# Altium footprint library golgi_bot_ESP_V2.01.PcbLib: 18 footprints (part 1 of 2)
Each footprint in its own frame and in the unit in brackets; x right, y up, seen from the top. Pads: shape width x height; smd on the part's side, far side on the other; paste and mask are expansions set on the pad; w line width, h text height; cw(c..) or ccw(c..) is an arc to the next point about the centre after c.
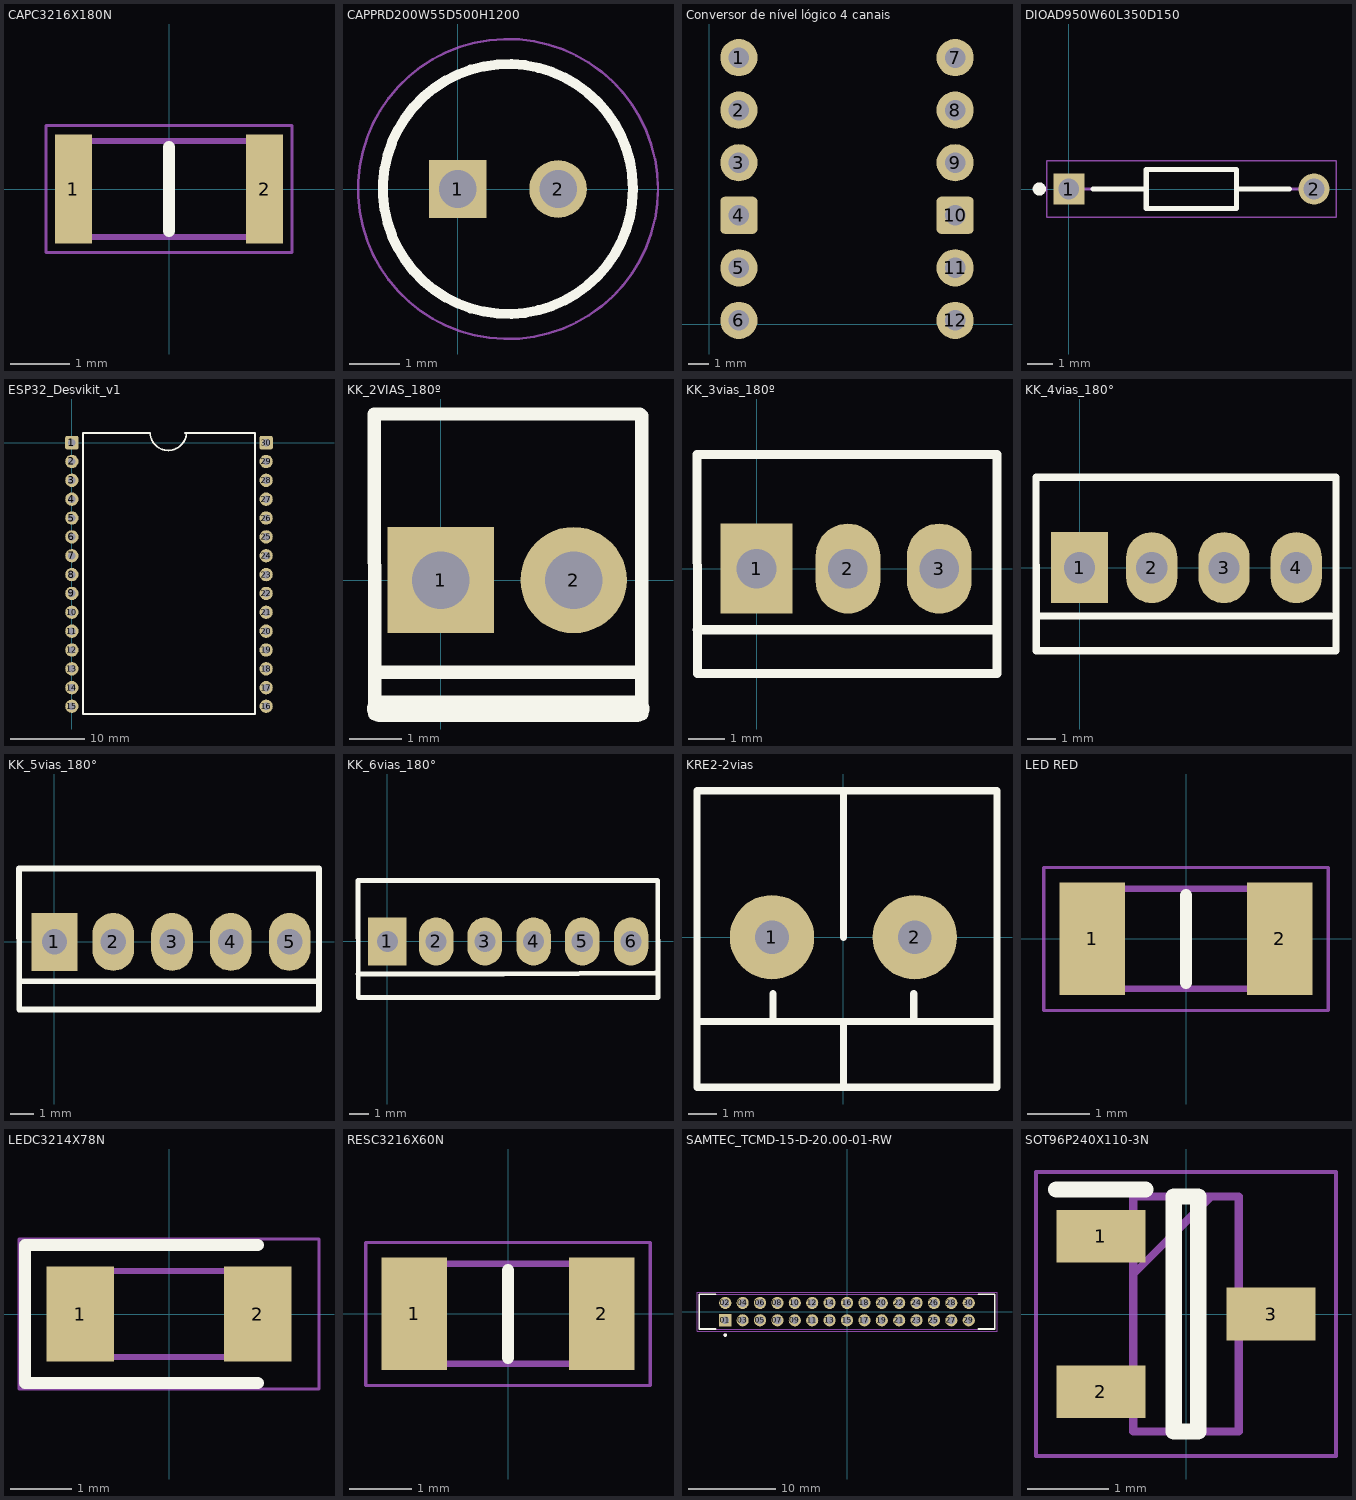
[diagram p0: the footprints below, top view; thin cyan lines are the x and y axes]

## CAPC3216X180N [mm]
pads (2):
  rect 0.62x1.82 smd: 1(-1.6,0) 2(1.6,0)
Top Overlay:
  lines w0.2: 0,-0.7 0,0.7
Mechanical 13:
  lines w0.1: -1.6,-0.8 1.6,-0.8 1.6,0.8 -1.6,0.8 -1.6,-0.8
Mechanical 15:
  lines w0.05: -2.06,-1.06 2.06,-1.06 2.06,1.06 -2.06,1.06 -2.06,-1.06
3D body "C3216X5R0J226M160AA.stp": height 1.8, standoff 0, extent -1.6,-0.8 1.6,0.8

## CAPPRD200W55D500H1200 [mm]
pads (2):
  rect 1.15x1.15 hole 0.75: 1(0,0)
  round 1.15 hole 0.75: 2(2,0)
Top Overlay:
  circle w0.2: c1,0 r2.5
Mechanical 13:
  circle w0.1: c1,0 r2.5
Mechanical 15:
  circle w0.05: c1,0 r3
3D body "ECA-0JM221.stp": height 12, standoff -10, extent -1.75,-2.75 3.75,2.75

## Conversor de nível lógico 4 canais [mm]
pads (12):
  round 1.8 hole 1: 1(1.425,12.875) 2(1.425,10.335) 3(1.425,7.795) 5(1.425,2.715) 6(1.425,0.175) 7(11.875,12.875) 8(11.875,10.335) 9(11.875,7.795) 11(11.875,2.715) 12(11.875,0.175)
  rrect25% 1.8x1.8 hole 1: 4(1.425,5.255) 10(11.875,5.255)
3D body "User Library-Header_Fem_1X6.STEP": height 8.5, standoff -3.2, extent 0.135,-1.37 2.675,14.37
3D body "User Library-Header_Fem_1X6.STEP": height 8.5, standoff -3.2, extent 10.585,-1.37 13.125,14.37
3D body "Logi Level Converter.STEP": height 10.85, standoff 8.48, extent 0.25,-1.1 13,14.15

## DIOAD950W60L350D150 [mm]
pads (2):
  rect 1.2x1.2 hole 0.8: 1(0,0)
  round 1.2 hole 0.8: 2(9.5,0)
Top Overlay:
  circle w0.254: c-1.143,0 r0.127
  lines w0.2: 0.95,0 3,0 ; 6.5,0 8.55,0 ; 3,-0.75 3,0.75 6.5,0.75 6.5,-0.75 3,-0.75
Mechanical 13:
  lines w0.1: 0,0 3,0 ; 6.5,0 9.5,0 ; 3,-0.75 3,0.75 6.5,0.75 6.5,-0.75 3,-0.75
Mechanical 15:
  lines w0.05: -0.85,-1.1 -0.85,1.1 10.35,1.1 10.35,-1.1 -0.85,-1.1
3D body "SD103A-TR.stp": height 1.69, standoff -1.7, extent -0.298,-0.848 9.8,0.848

## ESP32_Desvikit_v1 [mm]
pads (30):
  rrect25% 1.8x1.8 hole 1: 1(0,0) 30(26.175,0)
  round 1.8 hole 1: 2(0,-2.54) 3(0,-5.08) 4(0,-7.62) 5(0,-10.16) 6(0,-12.7) 7(0,-15.24) 8(0,-17.78) 9(0,-20.32) 10(0,-22.86) 11(0,-25.4) 12(0,-27.94) 13(0,-30.48) 14(0,-33.02) 15(0,-35.52) 16(26.175,-35.52) 17(26.175,-33.02) 18(26.175,-30.48) 19(26.175,-27.94) 20(26.175,-25.4) 21(26.175,-22.86) 22(26.175,-20.32) 23(26.175,-17.78) 24(26.175,-15.24) 25(26.175,-12.7) 26(26.175,-10.16) 27(26.175,-7.62) 28(26.175,-5.08) 29(26.175,-2.54)
Top Overlay:
  lines w0.254: 10.539,1.279 1.475,1.279 1.475,-36.567 24.689,-36.567 24.689,1.279 15.21,1.279 ; 10.539,1.289 ccw(c12.989,1.406) 15.44,1.308 ; 15.469,1.279 15.91,1.279
3D body "Header_Female.STEP": height 8.4, standoff -3.15, extent -1.2,-11.67 1.3,1.03
3D body "Header_Female.STEP": height 8.4, standoff -3.15, extent -1.2,-24.12 1.3,-11.42
3D body "Header_Female.STEP": height 8.4, standoff -3.15, extent -1.2,-36.62 1.3,-23.92
3D body "Header_Female.STEP": height 8.4, standoff -3.15, extent 24.899,-11.67 27.399,1.03
3D body "Header_Female.STEP": height 8.4, standoff -3.15, extent 24.899,-24.12 27.399,-11.42
3D body "Header_Female.STEP": height 8.4, standoff -3.15, extent 24.899,-36.62 27.399,-23.92
3D body "ESP-WROOM32.STEP": height 15.1, standoff 2.7, extent -1.141,-46.026 27.359,4.904

## KK_2VIAS_180º [mil]
pads (2):
  rect 80x80 hole 43.31: 1(0,0)
  round 80 hole 43.31: 2(100,0)
Top Overlay:
  lines w10: -49.66,-69.44 149.76,-69.44 ; -49.61,-100.79 -50,125 150,125 ; 151.18,-100.79 151.18,123.62
  lines w19.68: -45.67,-96.85 147.24,-96.85
3D body "User Library-Molex 2 pines.STEP": height 464.21, standoff -137.44, extent -61.38,-108.11 165,128.11

## KK_3vias_180º [mm]
pads (3):
  rect 2x2.5 hole 1.1: 1(0,0)
  oval 1.8x2.5 hole 1.1: 2(2.54,0) 3(5.08,0)
Top Overlay:
  lines w0.254: -1.651,-1.7 6.685,-1.7 ; -1.655,3.175 6.685,3.175 6.685,-2.921 -1.644,-2.921 -1.655,3.175
3D body "User Library-Molex 3 pines.step": height 11.9, standoff -3.38, extent -1.605,-2.952 6.685,3.048

## KK_4vias_180° [mm]
pads (4):
  rect 2x2.5 hole 1.1: 1(0,0)
  oval 1.8x2.5 hole 1.1: 2(2.54,0) 3(5.08,0) 4(7.62,0)
Top Overlay:
  lines w0.254: -1.524,-1.7 6.05,-1.7 8.841,-1.7 ; -1.534,3.175 6.685,3.175 9.017,3.175 9.017,-2.667 9.017,-2.921 6.685,-2.921 -1.523,-2.921 -1.534,3.175
3D body "KK_2.54_4VIAS.stp": height 10.12, standoff -5.14, extent -1.397,-2.794 8.763,3.006

## KK_5vias_180° [mm]
pads (5):
  rect 2x2.5 hole 1.1: 1(0,0)
  oval 1.8x2.5 hole 1.1: 2(2.54,0) 3(5.08,0) 4(7.62,0) 5(10.16,0)
Top Overlay:
  lines w0.254: -1.524,-1.7 6.05,-1.7 11.303,-1.7 ; -1.534,3.175 6.685,3.175 11.43,3.175 11.43,-2.921 9.017,-2.921 6.685,-2.921 -1.523,-2.921 -1.534,3.175
3D body "KK_2.54_5VIAS.stp": height 10.12, standoff -5.14, extent -1.397,-2.794 11.303,3.006

## KK_6vias_180° [mm]
pads (6):
  rect 2x2.5 hole 1.1: 1(0,0)
  oval 1.8x2.5 hole 1.1: 2(2.54,0) 3(5.08,0) 4(7.62,0) 5(10.16,0) 6(12.7,0)
Top Overlay:
  lines w0.254: -1.524,-1.7 6.05,-1.7 13.97,-1.642 ; 14.097,-2.921 9.017,-2.921 6.685,-2.921 -1.523,-2.921 -1.534,3.175 6.685,3.175 14.096,3.175 14.107,-2.921
3D body "User Library-molex kk 0_1in latching 6 way vertical header.STEP": height 10.1, standoff -5.14, extent -1.397,-2.794 13.843,3.048

## KRE2-2vias [mm]
pads (2):
  round 3 hole 1.2: 1(-2.54,0) 2(2.54,0)
Top Overlay:
  lines w0.254: -5.207,-3 5.461,-3 ; -2.5,-3 -2.5,-2 ; 0,-5.334 0,-3 ; 0,0 0,5.207 ; 2.5,-3 2.5,-2 ; -5.207,-5.334 -5.207,5.207 5.46,5.207 5.461,-5.334 -5.207,-5.334
3D body "User Library-TER-KF128-2P.STEP": height 14.35, standoff -4.95, extent -5.126,-5.334 5.634,5.166

## LED RED [mm]
pads (2):
  rect 1.05x1.8 smd: 1(-1.5,0) 2(1.5,0)
Top Overlay:
  lines w0.2: 0,-0.7 0,0.7
Mechanical 13:
  lines w0.1: -1.575,-0.8 1.575,-0.8 1.575,0.8 -1.575,0.8 -1.575,-0.8
Mechanical 15:
  lines w0.05: -2.275,-1.15 -2.275,1.143 -2.032,1.143 -1.138,1.143 1.137,1.143 2.032,1.143 2.275,1.143 2.275,-1.15 -2.275,-1.15
3D body "LED 0603 APT1608 RED.STEP": height 0.75, standoff 0, extent -0.787,-0.425 0.813,0.375

## LEDC3214X78N [mm]
pads (2):
  rect 1.1x1.55 smd: 1(-1.45,0) 2(1.45,0)
Top Overlay:
  lines w0.2: 1.45,-1.125 -2.35,-1.125 -2.35,1.125 1.45,1.125
Mechanical 13:
  lines w0.1: -1.6,0.233 -1.133,0.7 ; -1.6,-0.7 1.6,-0.7 1.6,0.7 -1.6,0.7 -1.6,-0.7
Mechanical 15:
  lines w0.05: -2.45,-1.225 2.45,-1.225 2.45,1.225 -2.45,1.225 -2.45,-1.225
3D body "150120BS75000.stp": height 0.8, standoff -0.8, extent -1.6,0 1.6,0.68

## RESC3216X60N [mm]
pads (2):
  rect 1.05x1.8 smd: 1(-1.5,0) 2(1.5,0)
Top Overlay:
  lines w0.2: 0,-0.7 0,0.7
Mechanical 13:
  lines w0.1: -1.575,-0.8 1.575,-0.8 1.575,0.8 -1.575,0.8 -1.575,-0.8
Mechanical 15:
  lines w0.05: -2.275,-1.15 -2.275,1.143 -2.032,1.143 -1.138,1.143 1.137,1.143 2.032,1.143 2.275,1.143 2.275,-1.15 -2.275,-1.15
3D body "CRCW12064K70FKEA.stp": height 0.6, standoff 0, extent -1.575,-0.8 1.575,0.8

## SAMTEC_TCMD-15-D-20.00-01-RW [mm]
height 5.334
pads (30):
  rect 1.398x1.398 / inner round 1.398 / far side rect 1.398x1.398 hole 0.89: 01(-14,-1)
  round 1.398 hole 0.89: 02(-14,1) 03(-12,-1) 04(-12,1) 05(-10,-1) 06(-10,1) 07(-8,-1) 08(-8,1) 09(-6,-1) 10(-6,1) 11(-4,-1) 12(-4,1) 13(-2,-1) 14(-2,1) 15(0,-1) 16(0,1) 17(2,-1) 18(2,1) 19(4,-1) 20(4,1) 21(6,-1) 22(6,1) 23(8,-1) 24(8,1) 25(10,-1) 26(10,1) 27(12,-1) 28(12,1) 29(14,-1) 30(14,1)
Top Overlay:
  circle w0.2: c-14,-2.7 r0.1
  lines w0.2: -15.1,-2 -17,-2 -17,2 -15.1,2 ; 15.1,-2 17,-2 17,2 15.1,2
Mechanical 13:
  circle w0.2: c-14,-2.7 r0.1
  lines w0.1: -17,-2 17,-2 17,2 -17,2 -17,-2
Mechanical 15:
  lines w0.05: -17.25,-2.25 -17.25,2.25 17.25,2.25 17.25,-2.25 -17.25,-2.25

## SOT96P240X110-3N [mm]
pads (3):
  rect 1.1x0.65 smd: 1(-1.05,0.96) 2(-1.05,-0.96) 3(1.05,0)
Top Overlay:
  lines w0.2: -1.6,1.535 -0.5,1.535 ; -0.15,-1.45 0.15,-1.45 0.15,1.45 -0.15,1.45 -0.15,-1.45
Mechanical 13:
  lines w0.1: -0.65,0.49 0.31,1.45 ; -0.65,-1.45 0.65,-1.45 0.65,1.45 -0.65,1.45 -0.65,-1.45
Mechanical 15:
  lines w0.05: -1.85,-1.75 1.85,-1.75 1.85,1.75 -1.85,1.75 -1.85,-1.75
3D body "BC817-25-7-F.stp": height 1.1, standoff 0, extent -1.2,-1.45 1.2,1.45